# Altium footprint library Ale.PcbLib: 181 footprints (part 10 of 12)
Each footprint in its own frame and in the unit in brackets; x right, y up, seen from the top. Pads: shape width x height; smd on the part's side, far side on the other; paste and mask are expansions set on the pad; w line width, h text height; cw(c..) or ccw(c..) is an arc to the next point about the centre after c.
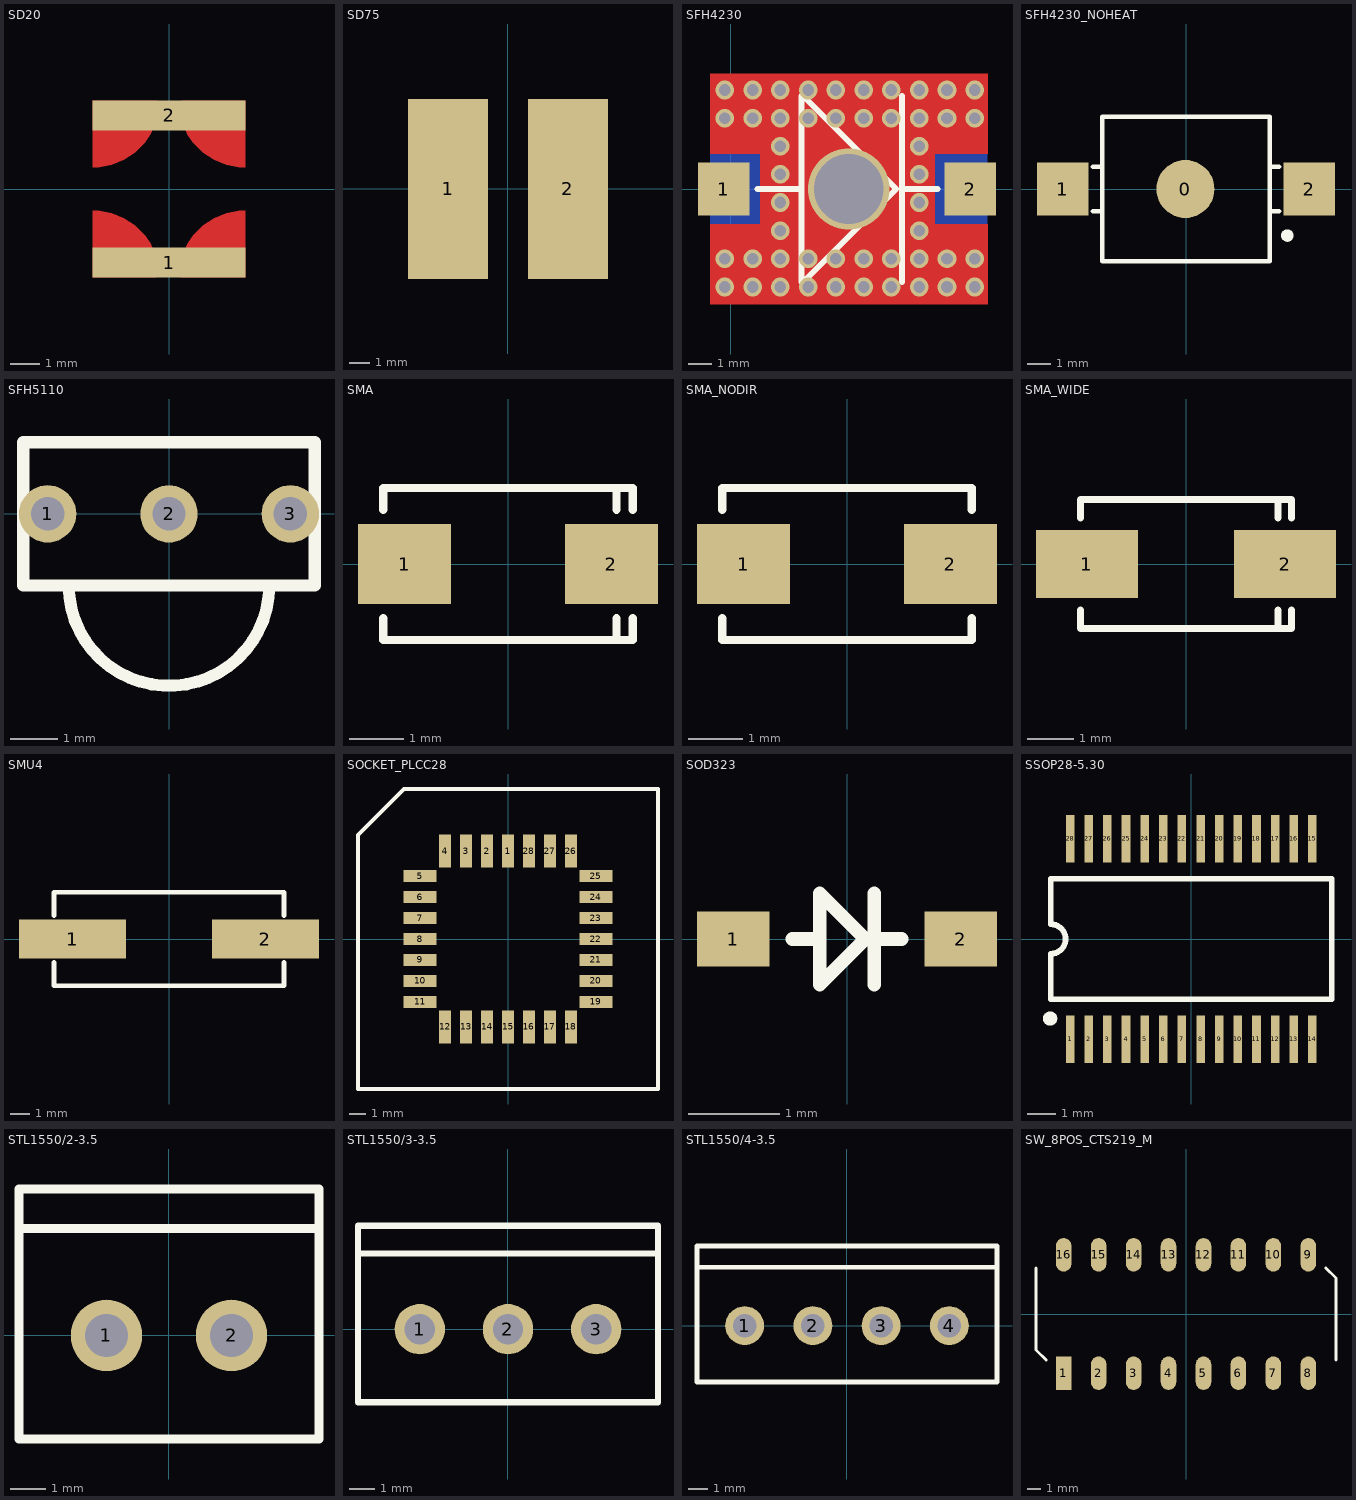
[diagram p9: the footprints below, top view; thin cyan lines are the x and y axes]

## SD20 [mm] "Coiltronics SD20 inductor package"
height 2
pads (2):
  rect 5.15x1 smd: 1(0,-2.475) 2(0,2.475)
Top Layer:
  region: -2.575,-2.975 -2.575,-0.725 -2.355,-0.725 -1.924,-0.811 -1.517,-0.979 -1.151,-1.224 -0.996,-1.379 -0.92,-1.455 -0.802,-1.573 -0.617,-1.85 -0.49,-2.157 -0.425,-2.484 -0.425,-2.65 -0.425,-2.975
  region: 2.575,2.975 2.575,0.725 2.355,0.725 1.924,0.811 1.517,0.979 1.151,1.224 0.996,1.379 0.92,1.455 0.802,1.573 0.617,1.85 0.49,2.157 0.425,2.484 0.425,2.65 0.425,2.975
  region: -2.575,2.975 -2.575,0.725 -2.355,0.725 -1.924,0.811 -1.517,0.979 -1.151,1.224 -0.996,1.379 -0.95,1.425 -0.819,1.556 -0.614,1.863 -0.472,2.205 -0.4,2.568 -0.4,2.753 -0.4,2.975
  region: 2.575,-2.975 2.575,-0.725 2.355,-0.725 1.924,-0.811 1.517,-0.979 1.151,-1.224 0.996,-1.379 0.95,-1.425 0.819,-1.556 0.614,-1.863 0.472,-2.205 0.4,-2.568 0.4,-2.753 0.4,-2.975
Top Solder:
  region: -2.675,-3.075 -2.675,-0.625 -2.437,-0.625 -1.971,-0.718 -1.531,-0.9 -1.136,-1.164 -0.968,-1.332 -0.891,-1.409 -0.756,-1.544 -0.545,-1.86 -0.399,-2.212 -0.325,-2.585 -0.325,-2.775 -0.325,-3.075
  region: 2.675,3.075 2.675,0.625 2.437,0.625 1.971,0.718 1.531,0.9 1.136,1.164 0.968,1.332 0.891,1.409 0.756,1.544 0.545,1.86 0.399,2.212 0.325,2.585 0.325,2.775 0.325,3.075
  region: -2.675,3.075 -2.675,0.625 -2.431,0.625 -1.953,0.72 -1.503,0.907 -1.098,1.177 -0.925,1.35 -0.898,1.377 -0.768,1.507 -0.563,1.814 -0.422,2.154 -0.35,2.516 -0.35,2.7 -0.35,3.075
  region: 2.675,-3.075 2.675,-0.625 2.431,-0.625 1.953,-0.72 1.503,-0.907 1.098,-1.177 0.925,-1.35 0.898,-1.377 0.768,-1.507 0.563,-1.814 0.422,-2.154 0.35,-2.516 0.35,-2.7 0.35,-3.075
3D body: height 2, standoff 0, extent -2.6,-2.6 2.6,2.6

## SD75 [mm] "SD75 inductor package"
height 5
pads (2):
  rect 4x9 smd: 1(-3,0) 2(3,0)
3D body: height 5, standoff 0, extent -4.001,-3.501 4.001,3.501

## SFH4230 [mm] "High power infrared LED"
height 1.5
pads (2):
  rect 2.2x2.3 smd: 1(-0.3,0) 2(10.3,0)
via 5.08,0 diameter 3.5 hole 3
via -0.254,4.258 diameter 0.8 hole 0.5
via -0.254,3.048 diameter 0.8 hole 0.5
via 0.94,4.258 diameter 0.8 hole 0.5
via 0.94,3.048 diameter 0.8 hole 0.5
via 2.134,4.258 diameter 0.8 hole 0.5
via 3.328,4.258 diameter 0.8 hole 0.5
via 3.328,3.048 diameter 0.8 hole 0.5
via 4.522,4.258 diameter 0.8 hole 0.5
via 4.522,3.048 diameter 0.8 hole 0.5
via 5.716,4.258 diameter 0.8 hole 0.5
via 5.716,3.048 diameter 0.8 hole 0.5
via 6.91,4.258 diameter 0.8 hole 0.5
via 6.91,3.048 diameter 0.8 hole 0.5
via 8.104,4.258 diameter 0.8 hole 0.5
via 8.104,3.048 diameter 0.8 hole 0.5
via 9.298,4.258 diameter 0.8 hole 0.5
via 9.298,3.048 diameter 0.8 hole 0.5
via 10.492,4.258 diameter 0.8 hole 0.5
via 10.492,3.048 diameter 0.8 hole 0.5
via 2.134,3.048 diameter 0.8 hole 0.5
via 2.134,1.838 diameter 0.8 hole 0.5
via 2.134,0.628 diameter 0.8 hole 0.5
via 2.134,-0.582 diameter 0.8 hole 0.5
via 2.134,-1.792 diameter 0.8 hole 0.5
via 2.134,-3.002 diameter 0.8 hole 0.5
via 2.134,-4.212 diameter 0.8 hole 0.5
via 10.492,-4.212 diameter 0.8 hole 0.5
via 10.492,-3.002 diameter 0.8 hole 0.5
via 9.298,-4.212 diameter 0.8 hole 0.5
via 9.298,-3.002 diameter 0.8 hole 0.5
via 8.104,-4.212 diameter 0.8 hole 0.5
via 8.104,-3.002 diameter 0.8 hole 0.5
via 6.91,-4.212 diameter 0.8 hole 0.5
via 6.91,-3.002 diameter 0.8 hole 0.5
via 5.716,-4.212 diameter 0.8 hole 0.5
via 5.716,-3.002 diameter 0.8 hole 0.5
via 4.522,-4.212 diameter 0.8 hole 0.5
via 4.522,-3.002 diameter 0.8 hole 0.5
via 3.328,-4.212 diameter 0.8 hole 0.5
via 3.328,-3.002 diameter 0.8 hole 0.5
via 0.94,-4.212 diameter 0.8 hole 0.5
via 0.94,-3.002 diameter 0.8 hole 0.5
via -0.254,-4.212 diameter 0.8 hole 0.5
via -0.254,-3.002 diameter 0.8 hole 0.5
via 8.104,1.838 diameter 0.8 hole 0.5
via 8.104,0.628 diameter 0.8 hole 0.5
via 8.104,-0.582 diameter 0.8 hole 0.5
via 8.104,-1.792 diameter 0.8 hole 0.5
Top Layer:
  region: -0.889,4.953 11.049,4.953 11.049,1.524 8.763,1.524 8.763,-1.524 11.049,-1.524 11.049,-4.953 -0.889,-4.953 -0.889,-1.524 1.27,-1.524 1.27,1.524 -0.889,1.524
Bottom Layer:
  rectangle: -0.889,-4.953 11.049,4.953
Top Overlay:
  lines w0.254: 1.143,0 3.048,0 ; 3.048,-4 3.048,4 ; 3.112,-4 7.112,0 3.112,4 ; 7.366,-4 7.366,4 ; 7.366,0 8.89,0
Top Solder:
  rectangle: 2.921,-2.159 7.239,2.159

## SFH4230_NOHEAT [mm] "High power infrared LED -- no thermal pad (for low duty pulsed use)"
height 1.5
pads (3):
  round 2.5 smd: 0(-0.025,0)
  rect 2.2x2.3 smd: 1(-5.3,0) 2(5.3,0)
Top Overlay:
  circle w0.254: c4.359,-2 r0.141
  lines w0.2: -4,-0.95 -3.6,-0.95 ; -4,0.95 -3.6,0.95 ; 3.6,-0.95 4,-0.95 ; 3.6,0.95 4,0.95 ; -3.6,-3.1 -3.6,3.1 3.6,3.1 3.6,-3.1 -3.6,-3.1
3D body: height 2, standoff 0, extent -3.6,-3.1 3.6,3.1

## SFH5110 [mm] "IR receiver"
height 6.1
pads (3):
  round 1.2 hole 0.7: 1(-2.54,0) 2(0,0) 3(2.54,0)
Top Overlay:
  lines w0.254: -2.1,-1.5 ccw(c0,-1.5) 2.1,-1.5 ; -3.05,-1.5 -3.05,1.5 3.05,1.5 3.05,-1.5 -3.05,-1.5
3D body: height 7.4, standoff 1.3, extent -3.049,-1.499 3.049,1.499
3D body: height 6.8, standoff 2.6, extent -2.078,-3.59 2.1,0.592

## SMA [mm] "DO-214AC Diode"
height 2
pads (2):
  rect 1.715x1.47 smd: 1(-1.907,0) 2(1.907,0)
Top Overlay:
  lines w0.15: -2.3,-1 -2.3,-1.4 2.3,-1.4 2.3,-1 ; -2.3,1 -2.3,1.4 2.3,1.4 2.3,1 ; 2,-1.4 2,-1 ; 2,1 2,1.4
3D body: height 2.4, standoff 0, extent -2.3,-1.45 2.3,1.45

## SMA_NODIR [mm] "DO-214AC Diode"
height 2
pads (2):
  rect 1.715x1.47 smd: 1(-1.907,0) 2(1.907,0)
Top Overlay:
  lines w0.15: -2.3,-1 -2.3,-1.4 2.3,-1.4 2.3,-1 ; -2.3,1 -2.3,1.4 2.3,1.4 2.3,1
3D body: height 2.4, standoff 0, extent -2.3,-1.45 2.3,1.45

## SMA_WIDE [mm] "DO-214AC Diode, easier soldering"
height 2
pads (2):
  rect 2.215x1.47 smd: 1(-2.157,0) 2(2.157,0)
Top Overlay:
  lines w0.15: -2.3,-1 -2.3,-1.4 2.3,-1.4 2.3,-1 ; -2.3,1 -2.3,1.4 2.3,1.4 2.3,1 ; 2,-1.4 2,-1 ; 2,1 2,1.4
3D body: height 2.4, standoff 0, extent -2.3,-1.45 2.3,1.45

## SMU4 [mm] "SMU4 SMD Crystal"
height 4
pads (2):
  rect 5.5x2 smd: 1(-4.95,0) 2(4.95,0)
Top Overlay:
  lines w0.254: -5.9,-1.201 -5.9,-2.4 5.9,-2.4 5.9,-1.212 ; -5.9,1.212 -5.9,2.4 5.9,2.4 5.9,1.201

## SOCKET_PLCC28 [mm] "PLCC28 socket (3M 8428)"
height 4.6
pads (28):
  rect 0.728x1.985 smd: 1(0,5.33) 2(-1.27,5.33) 3(-2.54,5.33) 4(-3.81,5.33) 12(-3.81,-5.33) 13(-2.54,-5.33) 14(-1.27,-5.33) 15(0,-5.33) 16(1.27,-5.33) 17(2.54,-5.33) 18(3.81,-5.33) 26(3.81,5.33) 27(2.54,5.33) 28(1.27,5.33)
  rect 1.985x0.728 smd: 5(-5.33,3.81) 6(-5.33,2.54) 7(-5.33,1.27) 8(-5.33,0) 9(-5.33,-1.27) 10(-5.33,-2.54) 11(-5.33,-3.81) 19(5.33,-3.81) 20(5.33,-2.54) 21(5.33,-1.27) 22(5.33,0) 23(5.33,1.27) 24(5.33,2.54) 25(5.33,3.81)
Top Overlay:
  lines w0.25: -9.09,-9.09 9.09,-9.09 9.09,9.09 -6.31,9.09 -9.09,6.31 -9.09,-9.09
3D body: height 4.6, standoff 0, extent -9.09,-9.09 9.09,9.09

## SOD323 [mm] "SOD323 diode package"
height 0.9
pads (2):
  rect 0.8x0.6 smd: 1(-1.25,0) 2(1.25,0)
Top Overlay:
  lines w0.15: -0.6,0 -0.3,0 ; 0.3,-0.5 0.3,0.5 ; 0.3,0 0.6,0 ; -0.3,-0.5 0.2,0 -0.3,0.5 -0.3,-0.5
3D body: height 0.9, standoff 0, extent -0.85,-0.625 0.85,0.625

## SSOP28-5.30 [mm] "Shrink Small Outline; 28 Leads; Body Width 5.3 mm; Pitch 0.65 mm"
height 1.2
pads (28):
  rect 0.3x1.65 smd: 1(-4.225,-3.5) 2(-3.575,-3.5) 3(-2.925,-3.5) 4(-2.275,-3.5) 5(-1.625,-3.5) 6(-0.975,-3.5) 7(-0.325,-3.5) 8(0.325,-3.5) 9(0.975,-3.5) 10(1.625,-3.5) 11(2.275,-3.5) 12(2.925,-3.5) 13(3.575,-3.5) 14(4.225,-3.5) 15(4.225,3.5) 16(3.575,3.5) 17(2.925,3.5) 18(2.275,3.5) 19(1.625,3.5) 20(0.975,3.5) 21(0.325,3.5) 22(-0.325,3.5) 23(-0.975,3.5) 24(-1.625,3.5) 25(-2.275,3.5) 26(-2.925,3.5) 27(-3.575,3.5) 28(-4.225,3.5)
Top Overlay:
  circle w0.25: c-4.925,-2.775 r0.125
  lines w0.2: -4.9,-2.1 -4.9,-0.517 ccw(c-4.9,0) -4.9,0.517 -4.9,2.1 4.9,2.1 4.9,-2.1 -4.9,-2.1

## STL1550/2-3.5 [mm] "STL1550 pin strip, 3.5 mm pitch"
height 9.2
pads (2):
  round 2 hole 1.2: 1(-1.75,0) 2(1.75,0)
Top Overlay:
  lines w0.254: -4.2,3 4.2,3 ; -4.2,-2.9 -4.2,4.1 4.2,4.1 4.2,-2.9 -4.2,-2.9
3D body: height 9.2, standoff 0, extent -4.199,-2.899 4.199,4.099

## STL1550/3-3.5 [mm] "STL1550 pin strip, 3.5 mm pitch"
height 9.2
pads (3):
  round 2 hole 1.2: 1(-3.5,0) 2(0,0) 3(3.5,0)
Top Overlay:
  lines w0.254: -5.95,3 5.95,3 ; -5.95,-2.9 -5.95,4.1 5.95,4.1 5.95,-2.9 -5.95,-2.9
3D body: height 9.2, standoff 0, extent -5.949,-2.9 5.95,4.1

## STL1550/4-3.5 [mm] "STL1550 pin strip, 3.5 mm pitch"
height 9.2
pads (4):
  round 2 hole 1.2: 1(-5.25,0) 2(-1.75,0) 3(1.75,0) 4(5.25,0)
Top Overlay:
  lines w0.254: -7.7,3 7.7,3 ; -7.7,-2.9 -7.7,4.1 7.7,4.1 7.7,-2.9 -7.7,-2.9
3D body: height 9.2, standoff 0, extent -7.699,-2.9 7.7,4.1

## SW_8POS_CTS219_M [mm] "CTS 219 medium height actuator, 8 pos."
height 4.05
pads (16):
  rect 1.13x2.44 smd: 1(-8.89,-4.3)
  oval 1.13x2.44 smd: 2(-6.35,-4.3) 3(-3.81,-4.3) 4(-1.27,-4.3) 5(1.27,-4.3) 6(3.81,-4.3) 7(6.35,-4.3) 8(8.89,-4.3) 9(8.89,4.3) 10(6.35,4.3) 11(3.81,4.3) 12(1.27,4.3) 13(-1.27,4.3) 14(-3.81,4.3) 15(-6.35,4.3) 16(-8.89,4.3)
Top Overlay:
  lines w0.2: -10.895,3.35 -10.895,-2.605 -10.15,-3.35 ; 10.15,3.35 10.895,2.605 10.895,-3.35
3D body: height 4.3, standoff 4.05, extent -9.389,-1.799 -8.391,1.799
3D body: height 4.3, standoff 4.05, extent -6.849,-1.799 -5.851,1.799
3D body: height 4.3, standoff 4.05, extent -4.309,-1.799 -3.311,1.799
3D body: height 4.3, standoff 4.05, extent -1.769,-1.799 -0.771,1.799
3D body: height 4.3, standoff 4.05, extent 3.311,-1.799 4.309,1.799
3D body: height 4.3, standoff 4.05, extent 0.771,-1.799 1.769,1.799
3D body: height 4.3, standoff 4.05, extent 5.851,-1.799 6.849,1.799
3D body: height 4.3, standoff 4.05, extent 8.391,-1.799 9.389,1.799
3D body: height 4.05, standoff 0.25, extent -10.896,-3.351 10.896,3.351